# Altium footprint library ultrasounic.PcbLib: 41 footprints (part 3 of 3)
Each footprint in its own frame and in the unit in brackets; x right, y up, seen from the top. Pads: shape width x height; smd on the part's side, far side on the other; paste and mask are expansions set on the pad; w line width, h text height; cw(c..) or ccw(c..) is an arc to the next point about the centre after c.
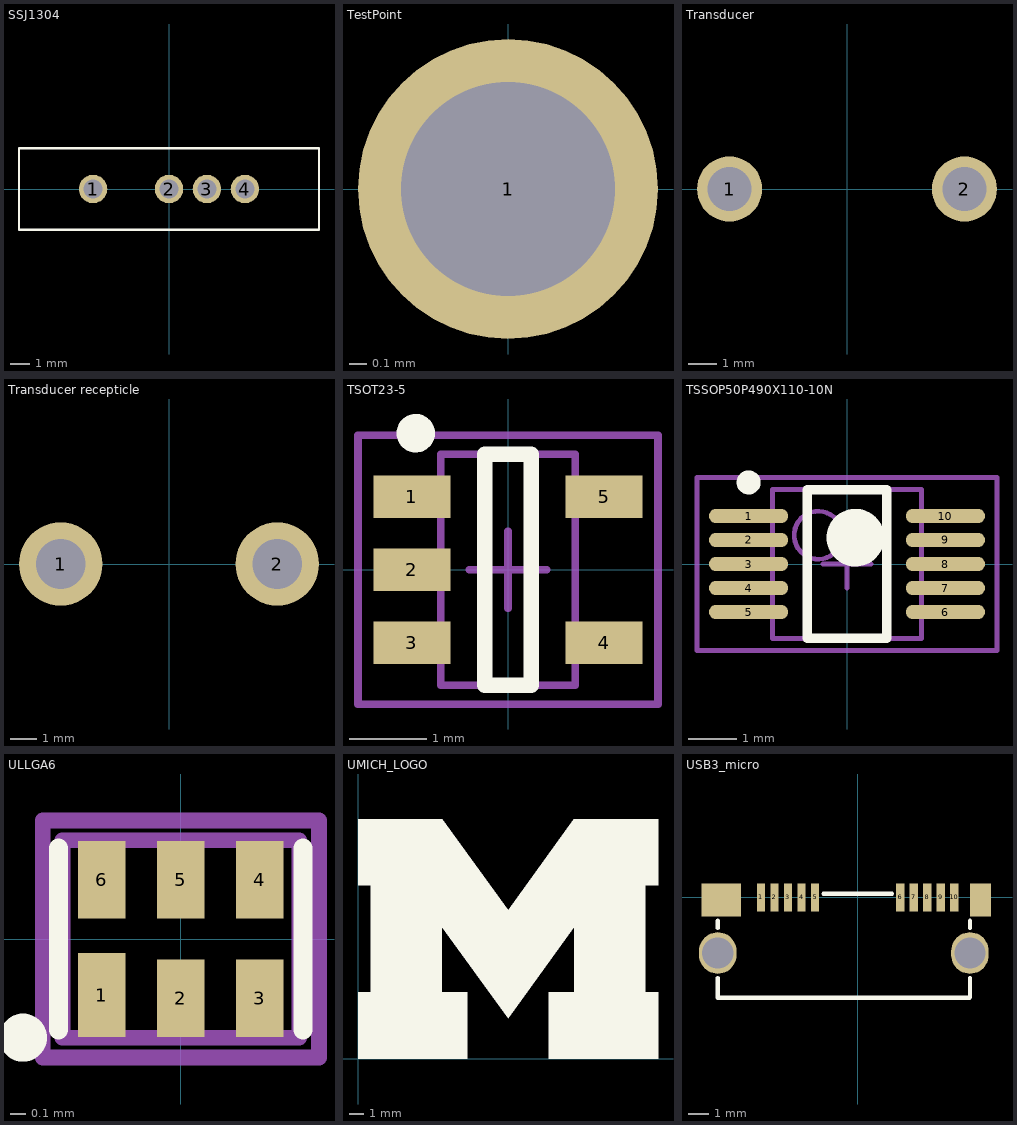
[diagram p2: the footprints below, top view; thin cyan lines are the x and y axes]

## SSJ1304 [mm] "Slide Switch"
pads (4):
  round 1.5 hole 1: 1(-4,0) 2(0,0) 3(2,0) 4(4,0)
Top Overlay:
  lines w0.12: -7.9,-2.15 7.9,-2.15 7.9,2.15 -7.9,2.15 -7.9,-2.15

## TestPoint [mm]
pads (1):
  round 1.68 hole 1.2: 1(0,0)
3D body: height 3.05, standoff 0, extent -1.26,-1.267 1.27,1.268
3D body: height 4.57, standoff 3.3, extent -0.628,-0.632 0.635,0.632

## Transducer [mm] "10mm pitch"
pads (2):
  round 2.3 hole 1.55: 1(-4.15,0) 2(4.15,0)
3D body: height 14, standoff 5, extent -6.449,-6.487 6.5,6.487

## Transducer recepticle [mm] "Transducer with Pin Recepticle"
pads (2):
  round 3.2 hole 1.9: 1(-4.15,0) 2(4.15,0)
3D body: height 14, standoff 5, extent -6.449,-6.487 6.5,6.487
3D body: height 5, standoff -3, extent -4.894,-0.748 -3.4,0.749
3D body: height 5, standoff -3, extent 3.406,-0.748 4.9,0.749

## TSOT23-5 [mm] "SOT23, 6-Leads, Body 3.0x2.9mm (max), Pitch 0.95mm, IPC Medium Density"
height 1
pads (5):
  rect 1x0.55 smd: 1(-1.25,0.95) 2(-1.25,0) 3(-1.25,-0.95) 4(1.25,-0.95) 5(1.25,0.95)
Top Overlay:
  circle w0.25: c-1.2,1.775 r0.125
  lines w0.2: -0.3,-1.5 -0.3,1.5 0.3,1.5 0.3,-1.5 -0.3,-1.5
Mechanical 13:
  lines w0.1: -0.875,-1.5 0.875,-1.5 0.875,1.5 -0.875,1.5 -0.875,-1.5
Mechanical 15:
  lines w0.1: -0.5,0 0.5,0 ; 0,-0.5 0,0.5 ; -1.95,-1.75 1.95,-1.75 1.95,1.75 -1.95,1.75 -1.95,-1.75
3D body: height 1, standoff 0.1, extent -0.875,-1.5 0.875,1.5

## TSSOP50P490X110-10N [mm] "TSSOP, 10-Leads, Body 3.1x3.1mm (max), Pitch 0.50mm, IPC Medium Density"
height 1.1
pads (10):
  oval 1.65x0.3 smd: 1(-2.05,1) 2(-2.05,0.5) 3(-2.05,0) 4(-2.05,-0.5) 5(-2.05,-1) 6(2.05,-1) 7(2.05,-0.5) 8(2.05,0) 9(2.05,0.5) 10(2.05,1)
Top Overlay:
  circle w0.6: c0.175,0.55 r0.3
  circle w0.25: c-2.05,1.7 r0.125
  lines w0.2: -0.825,-1.55 0.825,-1.55 0.825,1.55 -0.825,1.55 -0.825,-1.55
Mechanical 13:
  circle w0.1: c-0.6,0.6 r0.5
  lines w0.1: -1.55,-1.55 1.55,-1.55 1.55,1.55 -1.55,1.55 -1.55,-1.55
Mechanical 15:
  lines w0.1: -0.5,0 0.5,0 ; 0,-0.5 0,0.5 ; -3.125,-1.8 3.125,-1.8 3.125,1.8 -3.125,1.8 -3.125,-1.8
3D body: height 1.1, standoff 0.1, extent -1.55,-1.55 1.55,1.55

## ULLGA6 [mm] "ULLGA6 1.45x1.0, 0.5P  CASE 613AF"
pads (6):
  rect 0.3x0.53 smd: 1(-0.5,-0.355)
  rect 0.3x0.49 smd: 2(0,-0.375) 3(0.5,-0.375) 4(0.5,0.375) 5(0,0.375) 6(-0.5,0.375)
Top Overlay:
  circle w0.254: c-1,-0.625 r0.025
  lines w0.12: -0.775,-0.575 -0.775,0.575 ; 0.775,-0.575 0.775,0.575
DesignatorTOP:
  text ".Designator" at -2.9,-0.225 h0.6
Mechanical 13:
  lines w0.1: -0.75,-0.625 -0.75,0.625 0.75,0.625 0.75,-0.625 -0.75,-0.625
Mechanical 15:
  lines w0.1: -0.875,-0.75 -0.875,0.75 0.875,0.75 0.875,-0.75 -0.875,-0.75
3D body: height 0.4, standoff 0, extent -0.725,-0.5 0.725,0.5

## UMICH_LOGO [mm]
Top Overlay:
  region: 0,0 7.4,0 7.4,4.5 5.675,4.5 5.675,8.95 10.175,2.75 14.675,8.95 14.675,4.5 12.95,4.5 12.95,0 20.35,0 20.35,4.5 19.475,4.5 19.475,11.775 20.35,11.775 20.35,16.225 14.65,16.225 10.175,10.075 5.7,16.225 0,16.225 0,11.775 0.875,11.775 0.875,4.5 0,4.5

## USB3_micro [mm] "USB3 micro"
pads (14):
  rect 0.4x1.35 smd: 1(-4.65,0) 2(-4,0) 3(-3.35,0) 4(-2.7,0) 5(-2.05,0) 6(2.05,0) 7(2.7,0) 8(3.35,0) 9(4,0) 10(4.65,0)
  oval 1.8x2 hole 1.5: ""(-6.725,-2.675) ""(5.4,-2.675)
  rect 1.9x1.6 smd: ""(-6.55,-0.125)
  rect 1x1.6 smd: ""(5.9,-0.125)
Top Overlay:
  lines w0.2: -6.725,-3.875 -6.725,-4.825 3.25,-4.825 5.375,-4.825 5.4,-4.8 5.4,-3.875 ; -6.725,-1.475 -6.725,-1.125 ; -1.65,0.175 1.65,0.175 ; 5.4,-1.475 5.4,-1.125
3D body: height 3.6, standoff 0, extent -6.7,-4.825 5.4,0.25